# Altium footprint library Module.PcbLib: 2 footprints
Each footprint in its own frame and in the unit in brackets; x right, y up, seen from the top. Pads: shape width x height; smd on the part's side, far side on the other; paste and mask are expansions set on the pad; w line width, h text height; cw(c..) or ccw(c..) is an arc to the next point about the centre after c.
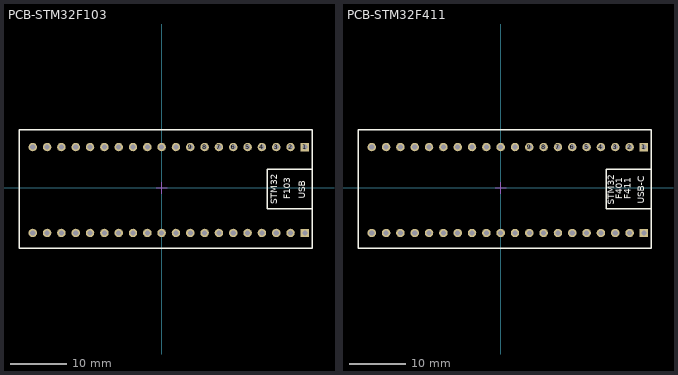
[diagram p0: the footprints below, top view; thin cyan lines are the x and y axes]

## PCB-STM32F103 [mm] "Development board STM32F104"
height 10
pads (40):
  rect 1.5x1.5 hole 0.9: 1(25.4,7.24) 40(25.4,-8)
  round 1.5 hole 0.9: 2(22.86,7.24) 3(20.32,7.24) 4(17.78,7.24) 5(15.24,7.24) 6(12.7,7.24) 7(10.16,7.24) 8(7.62,7.24) 9(5.08,7.24) 10(2.54,7.24) 11(0,7.24) 12(-2.54,7.24) 13(-5.08,7.24) 14(-7.62,7.24) 15(-10.16,7.24) 16(-12.7,7.24) 17(-15.24,7.24) 18(-17.78,7.24) 19(-20.32,7.24) 20(-22.86,7.24) 21(-22.86,-8) 22(-20.32,-8) 23(-17.78,-8) 24(-15.24,-8) 25(-12.7,-8) 26(-10.16,-8) 27(-7.62,-8) 28(-5.08,-8) 29(-2.54,-8) 30(0,-8) 31(2.54,-8) 32(5.08,-8) 33(7.62,-8) 34(10.16,-8) 35(12.7,-8) 36(15.24,-8) 37(17.78,-8) 38(20.32,-8) 39(22.86,-8)
Top Overlay:
  lines w0.254: 18.699,3.3 26.499,3.3 ; 18.9,3.3 18.7,3.3 18.699,3.1 18.699,-3.7 26.7,-3.7 ; -25.3,-10.7 -25.3,-0.7 -25.3,10.3 26.7,10.3 26.7,-0.7 26.7,-10.7 16.7,-10.7 6.7,-10.7 -3.3,-10.7 -13.3,-10.7 -25.3,-10.7
  text "F103" at 23.241,-2.032 h2
  text "STM32" at 20.955,-2.921 h2
  text "USB" at 25.908,-1.905 h2
Mechanical 15:
  lines w0.2: -1,0 1,0 ; 0,-1 0,1
3D body "BluePill.X_B": height 16.13, standoff -1.3, extent -30.378,-11.654 28.258,10.846

## PCB-STM32F411 [mm] "Development board STM32F411/401"
height 10
pads (40):
  rect 1.5x1.5 hole 0.9: 1(25.4,7.24) 40(25.4,-8)
  round 1.5 hole 0.9: 2(22.86,7.24) 3(20.32,7.24) 4(17.78,7.24) 5(15.24,7.24) 6(12.7,7.24) 7(10.16,7.24) 8(7.62,7.24) 9(5.08,7.24) 10(2.54,7.24) 11(0,7.24) 12(-2.54,7.24) 13(-5.08,7.24) 14(-7.62,7.24) 15(-10.16,7.24) 16(-12.7,7.24) 17(-15.24,7.24) 18(-17.78,7.24) 19(-20.32,7.24) 20(-22.86,7.24) 21(-22.86,-8) 22(-20.32,-8) 23(-17.78,-8) 24(-15.24,-8) 25(-12.7,-8) 26(-10.16,-8) 27(-7.62,-8) 28(-5.08,-8) 29(-2.54,-8) 30(0,-8) 31(2.54,-8) 32(5.08,-8) 33(7.62,-8) 34(10.16,-8) 35(12.7,-8) 36(15.24,-8) 37(17.78,-8) 38(20.32,-8) 39(22.86,-8)
Top Overlay:
  lines w0.254: 18.699,3.3 26.499,3.3 ; 18.9,3.3 18.7,3.3 18.699,3.1 18.699,-3.7 26.7,-3.7 ; -25.3,-10.7 -25.3,-0.7 -25.3,10.3 26.7,10.3 26.7,-0.7 26.7,-10.7 16.7,-10.7 6.7,-10.7 -3.3,-10.7 -13.3,-10.7 -25.3,-10.7
  text "F411" at 23.5,-2.005 h2
  text "F401" at 22,-2.005 h2
  text "STM32" at 20.6,-3 h2
  text "USB-C" at 25.9,-2.8 h2
Mechanical 15:
  lines w0.2: -1,0 1,0 ; 0,-1 0,1
3D body "411 v17.step": height 18.05, standoff -3.14, extent -26.394,-10.54 26.756,10.24